# EAGLE library part EE25_P1_S2 (library _Transformers[Конфликт])
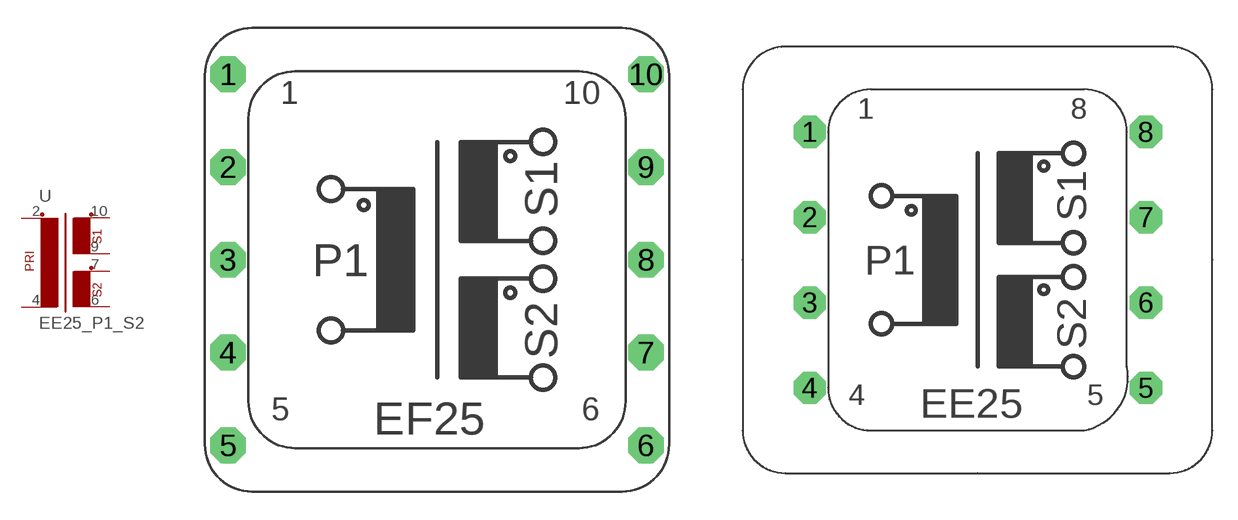
[diagram p0: symbol with the pads of EF25_P1_S2; footprints EF25_P1_S2, EE25_P1_S2]

Designator prefix -

## EE25_P1_S25-5  [EF25_P1_S2]
2  P1-1  pas
4  P1-2  pas
6  S2-2  pas
7  S2-1  pas
9  S1-2  pas
10  S1-1  pas

## EE25_P1_S24-4  [EE25_P1_S2]
1  P1-1  pas
4  P1-2  pas
5  S2-2  pas
6  S2-1  pas
7  S1-2  pas
8  S1-1  pas

## Footprint EF25_P1_S2 (pad centres in mm)
drill 0.5 pad 1.93 octagon: 1 -11.25,10; 2 -11.25,5; 3 -11.25,0; 4 -11.25,-5; 5 -11.25,-10; 6 11.25,-10; 7 11.25,-5; 8 11.25,0; 9 11.25,5; 10 11.25,10

## Footprint EE25_P1_S2 (pad centres in mm)
drill 0.5 pad 1.93 octagon: 1 -9.98,7.62; 2 -9.98,2.54; 3 -9.98,-2.54; 4 -9.98,-7.62; 5 10.02,-7.62; 6 10.02,-2.54; 7 10.02,2.54; 8 10.02,7.62